# Altium footprint library B9_HashBoard.PcbLib: 47 footprints (part 3 of 3)
Each footprint in its own frame and in the unit in brackets; x right, y up, seen from the top. Pads: shape width x height; smd on the part's side, far side on the other; paste and mask are expansions set on the pad; w line width, h text height; cw(c..) or ccw(c..) is an arc to the next point about the centre after c.
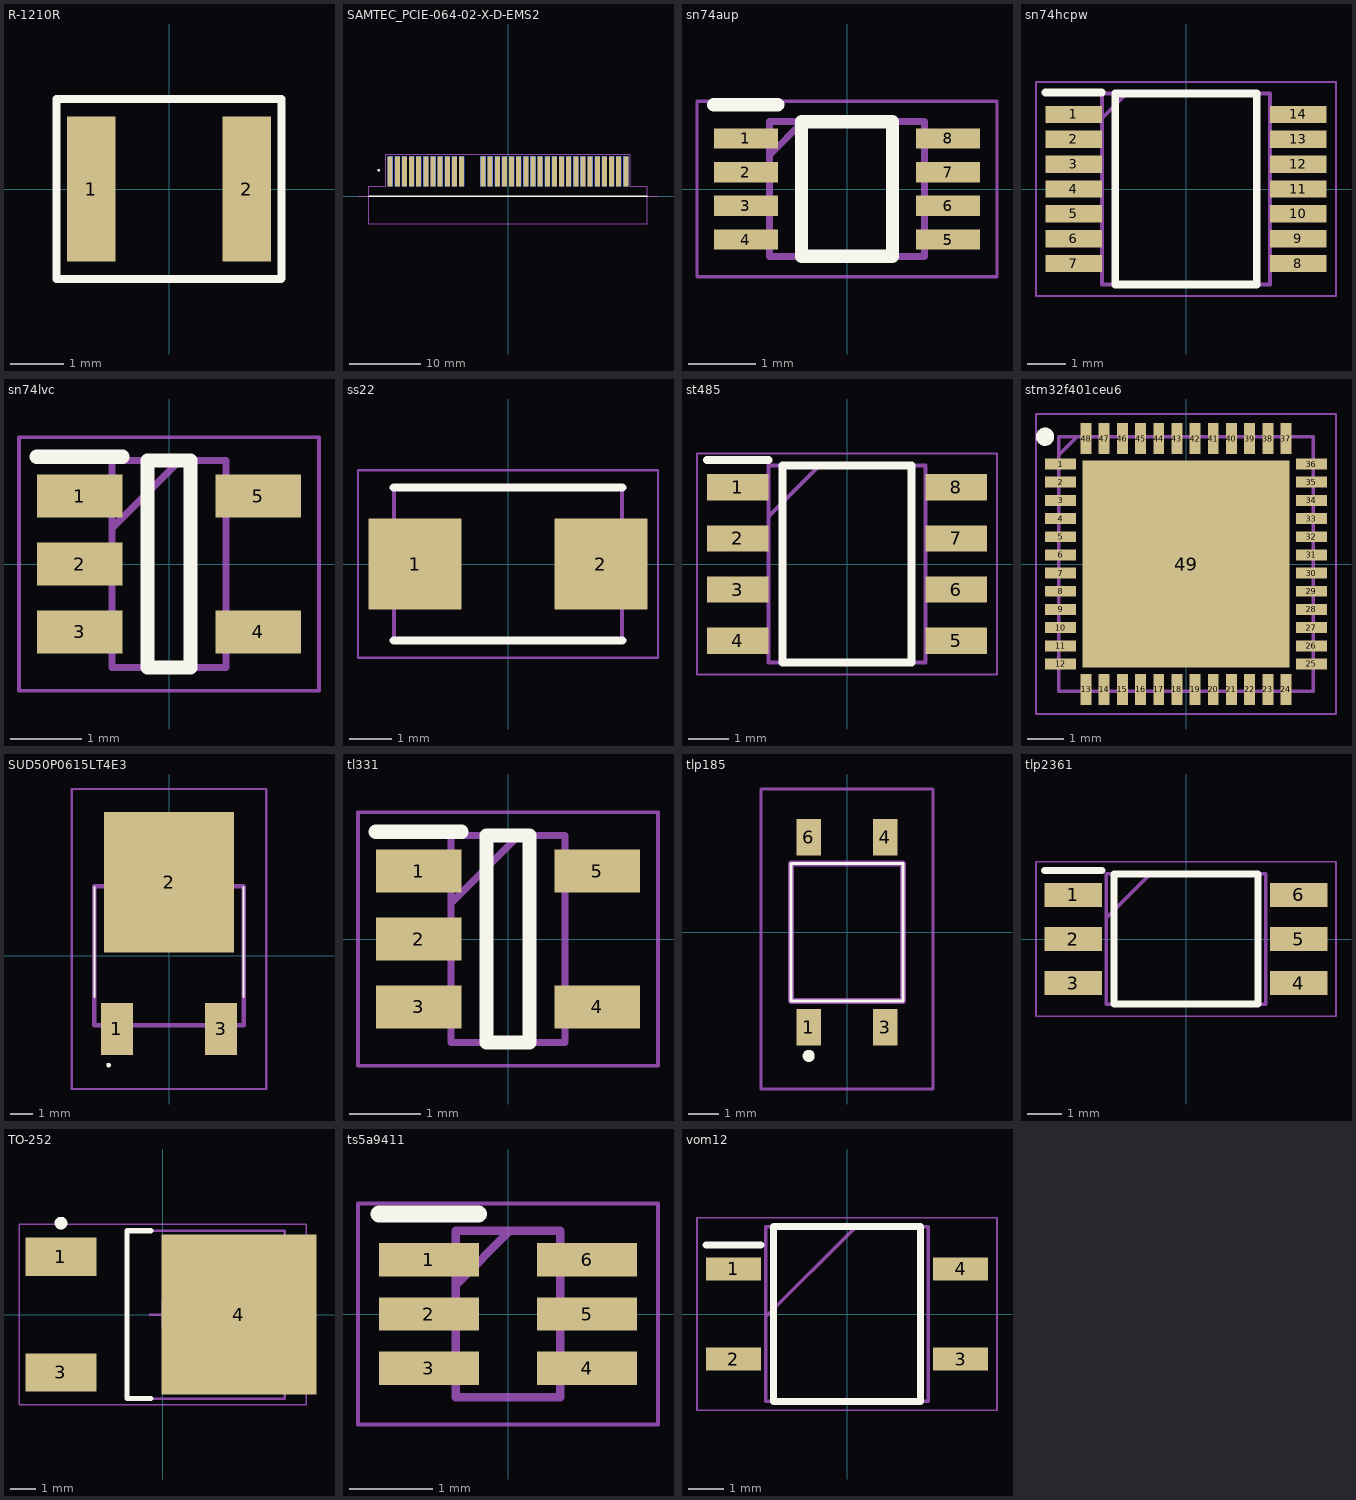
[diagram p2: the footprints below, top view; thin cyan lines are the x and y axes]

## R-1210R [mm] "resistor 1210 reflow soldering"
pads (2):
  rect 0.9x2.7 smd: 1(-1.45,0) 2(1.45,0)
Top Overlay:
  lines w0.152: 2.1,1.66 2.1,-1.67 2.09,-1.68 1.25,-1.68 -2.1,-1.68 -2.1,1.68 2.1,1.68

## SAMTEC_PCIE-064-02-X-D-EMS2 [mm]
pads (64):
  rect 0.7x4.2 smd: A1(-16.5,3.5) A2(-15.5,3.5) A3(-14.5,3.5) A4(-13.5,3.5) A5(-12.5,3.5) A6(-11.5,3.5) A7(-10.5,3.5) A8(-9.5,3.5) A9(-8.5,3.5) A10(-7.5,3.5) A11(-6.5,3.5) A12(-3.5,3.5) A13(-2.5,3.5) A14(-1.5,3.5) A15(-0.5,3.5) A16(0.5,3.5) A17(1.5,3.5) A18(2.5,3.5) A19(3.5,3.5) A20(4.5,3.5) A21(5.5,3.5) A22(6.5,3.5) A23(7.5,3.5) A24(8.5,3.5) A25(9.5,3.5) A26(10.5,3.5) A27(11.5,3.5) A28(12.5,3.5) A29(13.5,3.5) A30(14.5,3.5) A31(15.5,3.5) A32(16.5,3.5)
  rect 0.7x4.2 smd far side: B1(-16.5,3.5) B2(-15.5,3.5) B3(-14.5,3.5) B4(-13.5,3.5) B5(-12.5,3.5) B6(-11.5,3.5) B7(-10.5,3.5) B8(-9.5,3.5) B9(-8.5,3.5) B10(-7.5,3.5) B11(-6.5,3.5) B12(-3.5,3.5) B13(-2.5,3.5) B14(-1.5,3.5) B15(-0.5,3.5) B16(0.5,3.5) B17(1.5,3.5) B18(2.5,3.5) B19(3.5,3.5) B20(4.5,3.5) B21(5.5,3.5) B22(6.5,3.5) B23(7.5,3.5) B24(8.5,3.5) B25(9.5,3.5) B26(10.5,3.5) B27(11.5,3.5) B28(12.5,3.5) B29(13.5,3.5) B30(14.5,3.5) B31(15.5,3.5) B32(16.5,3.5)
Top Overlay:
  circle w0.2: c-18.1,3.65 r0.1
  lines w0.2: -19.5,0 19.5,0
Mechanical 13:
  circle w0.2: c-18.1,3.65 r0.1
  lines w0.1: -21,0 21,0 ; -19.5,-3.81 19.5,-3.81 19.5,0 -19.5,0 -19.5,-3.81
Mechanical 15:
  lines w0.05: -19.5,0 -19.5,1.4 -17.1,1.4 -17.1,5.85 17.1,5.85 17.1,1.4 19.5,1.4 19.5,0 -19.5,0

## sn74aup [mm]
pads (8):
  rect 0.95x0.3 smd: 1(-1.5,0.75) 2(-1.5,0.25) 3(-1.5,-0.25) 4(-1.5,-0.75) 5(1.5,-0.75) 6(1.5,-0.25) 7(1.5,0.25) 8(1.5,0.75)
Top Overlay:
  lines w0.2: -1.975,1.25 -1.025,1.25 ; -0.675,-1 -0.675,1 0.675,1 0.675,-1 -0.675,-1
Mechanical 13:
  lines w0.1: -1.15,0.5 -0.65,1 ; -1.15,-1 -1.15,1 1.15,1 1.15,-1 -1.15,-1
Mechanical 15:
  lines w0.05: -2.225,-1.3 -2.225,1.3 2.225,1.3 2.225,-1.3 -2.225,-1.3
3D body "SN74AUP1G74DCUR.stp": height 0.9, standoff 0, extent -1.55,-1 1.55,1

## sn74hcpw [mm]
pads (14):
  rect 1.475x0.45 smd: 1(-2.938,1.95) 2(-2.938,1.3) 3(-2.938,0.65) 4(-2.938,0) 5(-2.938,-0.65) 6(-2.938,-1.3) 7(-2.938,-1.95) 8(2.938,-1.95) 9(2.938,-1.3) 10(2.938,-0.65) 11(2.938,0) 12(2.938,0.65) 13(2.938,1.3) 14(2.938,1.95)
Top Overlay:
  lines w0.2: -3.675,2.525 -2.2,2.525 ; -1.85,-2.5 1.85,-2.5 1.85,2.5 -1.85,2.5 -1.85,-2.5
Mechanical 13:
  lines w0.1: -2.2,1.85 -1.55,2.5 ; -2.2,-2.5 2.2,-2.5 2.2,2.5 -2.2,2.5 -2.2,-2.5
Mechanical 15:
  lines w0.05: -3.925,-2.8 3.925,-2.8 3.925,2.8 -3.925,2.8 -3.925,-2.8
3D body "SN74HC14PW.stp": height 1.2, standoff 0, extent -3.2,-2.5 3.2,2.5

## sn74lvc [mm]
pads (5):
  rect 1.2x0.6 smd: 1(-1.25,0.95) 2(-1.25,0) 3(-1.25,-0.95) 4(1.25,-0.95) 5(1.25,0.95)
Top Overlay:
  lines w0.2: -1.85,1.5 -0.65,1.5 ; -0.3,-1.45 -0.3,1.45 0.3,1.45 0.3,-1.45 -0.3,-1.45
Mechanical 13:
  lines w0.1: -0.8,0.5 0.15,1.45 ; -0.8,-1.45 -0.8,1.45 0.8,1.45 0.8,-1.45 -0.8,-1.45
Mechanical 15:
  lines w0.05: -2.1,-1.775 -2.1,1.775 2.1,1.775 2.1,-1.775 -2.1,-1.775
3D body "TL331BIDBVR.stp": height 1.45, standoff 0, extent -1.4,-1.45 1.4,1.45

## ss22 [mm]
pads (2):
  rect 2.2x2.15 smd: 1(-2.2,0) 2(2.2,0)
Top Overlay:
  lines w0.2: -2.7,-1.81 2.7,-1.81 ; -2.7,1.81 2.7,1.81
Mechanical 13:
  lines w0.1: -2.7,-1.81 2.7,-1.81 2.7,1.81 -2.7,1.81 -2.7,-1.81
Mechanical 15:
  lines w0.05: -3.55,-2.22 3.55,-2.22 3.55,2.22 -3.55,2.22 -3.55,-2.22
3D body "SS22-E3_52T.stp": height 2.44, standoff 0, extent -2.7,-1.81 2.7,1.81

## st485 [mm]
pads (8):
  rect 1.525x0.65 smd: 1(-2.712,1.905) 2(-2.712,0.635) 3(-2.712,-0.635) 4(-2.712,-1.905) 5(2.712,-1.905) 6(2.712,-0.635) 7(2.712,0.635) 8(2.712,1.905)
Top Overlay:
  lines w0.2: -3.475,2.58 -1.95,2.58 ; -1.6,-2.45 1.6,-2.45 1.6,2.45 -1.6,2.45 -1.6,-2.45
Mechanical 13:
  lines w0.1: -1.95,1.18 -0.68,2.45 ; -1.95,-2.45 1.95,-2.45 1.95,2.45 -1.95,2.45 -1.95,-2.45
Mechanical 15:
  lines w0.05: -3.725,-2.75 3.725,-2.75 3.725,2.75 -3.725,2.75 -3.725,-2.75
3D body "NE555DR.stp": height 1.75, standoff 0, extent -3,-2.45 3,2.45

## stm32f401ceu6 [mm]
pads (49):
  rect 0.85x0.3 smd: 1(-3.45,2.75) 2(-3.45,2.25) 3(-3.45,1.75) 4(-3.45,1.25) 5(-3.45,0.75) 6(-3.45,0.25) 7(-3.45,-0.25) 8(-3.45,-0.75) 9(-3.45,-1.25) 10(-3.45,-1.75) 11(-3.45,-2.25) 12(-3.45,-2.75) 25(3.45,-2.75) 26(3.45,-2.25) 27(3.45,-1.75) 28(3.45,-1.25) 29(3.45,-0.75) 30(3.45,-0.25) 31(3.45,0.25) 32(3.45,0.75) 33(3.45,1.25) 34(3.45,1.75) 35(3.45,2.25) 36(3.45,2.75)
  rect 0.3x0.85 smd: 13(-2.75,-3.45) 14(-2.25,-3.45) 15(-1.75,-3.45) 16(-1.25,-3.45) 17(-0.75,-3.45) 18(-0.25,-3.45) 19(0.25,-3.45) 20(0.75,-3.45) 21(1.25,-3.45) 22(1.75,-3.45) 23(2.25,-3.45) 24(2.75,-3.45) 37(2.75,3.45) 38(2.25,3.45) 39(1.75,3.45) 40(1.25,3.45) 41(0.75,3.45) 42(0.25,3.45) 43(-0.25,3.45) 44(-0.75,3.45) 45(-1.25,3.45) 46(-1.75,3.45) 47(-2.25,3.45) 48(-2.75,3.45)
  rect 5.7x5.7 smd: 49(0,0)
Top Overlay:
  circle w0.25: c-3.875,3.5 r0.125
Mechanical 13:
  lines w0.1: -3.5,3 -3,3.5 ; -3.5,-3.5 3.5,-3.5 3.5,3.5 -3.5,3.5 -3.5,-3.5
Mechanical 15:
  lines w0.05: -4.125,-4.125 4.125,-4.125 4.125,4.125 -4.125,4.125 -4.125,-4.125
3D body "STM32F401CEU6.stp": height 0.65, standoff 0, extent -3.55,-3.55 3.55,3.55

## SUD50P0615LT4E3 [mil]
pads (3):
  rect 55x90 smd: 1(-90,-126.69) 3(90,-126.69)
  rect 224.02x243.31 smd: 2(0,126.65)
Top Overlay:
  lines w3.94: -128.74,-70.87 -128.74,118.11 ; 128.74,-70.87 128.74,118.11 ; -106.3,-188.98 cw(c-104.33,-188.98) -102.36,-188.98 cw(c-104.33,-188.98) -106.3,-188.98
Mechanical 13:
  lines w7.87: -128.74,-119.96 128.74,-119.96 128.74,119.96 -128.74,119.96 -128.74,-119.96
Mechanical 15:
  lines w3.94: -168.11,-230.31 168.11,-230.31 168.11,287.72 -168.11,287.72 -168.11,-230.31
3D body "SUD50P06-15L-T4-E3.stp": height 98.03, standoff 0, extent -128.74,-166.19 128.74,225.91

## tl331 [mm]
pads (5):
  rect 1.2x0.6 smd: 1(-1.25,0.95) 2(-1.25,0) 3(-1.25,-0.95) 4(1.25,-0.95) 5(1.25,0.95)
Top Overlay:
  lines w0.2: -1.85,1.5 -0.65,1.5 ; -0.3,-1.45 0.3,-1.45 0.3,1.45 -0.3,1.45 -0.3,-1.45
Mechanical 13:
  lines w0.1: -0.8,0.5 0.15,1.45 ; -0.8,-1.45 0.8,-1.45 0.8,1.45 -0.8,1.45 -0.8,-1.45
Mechanical 15:
  lines w0.05: -2.1,-1.775 2.1,-1.775 2.1,1.775 -2.1,1.775 -2.1,-1.775
3D body "TL331BIDBVR.stp": height 1.45, standoff 0, extent -1.4,-1.45 1.4,1.45

## tlp185 [mm]
pads (4):
  rect 0.8x1.2 smd: 1(-1.27,-3.15) 3(1.27,-3.15) 4(1.27,3.15) 6(-1.27,3.15)
Top Overlay:
  lines w0.1: -1.85,-2.275 -1.85,2.275 1.85,2.275 1.85,-2.275 -1.85,-2.275
  lines w0.2: -1.37,-4.1 ccw(c-1.27,-4.1) -1.17,-4.1 ccw(c-1.27,-4.1) -1.37,-4.1
Mechanical 13:
  lines w0.2: -1.85,-2.275 -1.85,2.275 1.85,2.275 1.85,-2.275 -1.85,-2.275
Mechanical 15:
  lines w0.1: -2.85,-5.2 -2.85,4.75 2.85,4.75 2.85,-5.2 -2.85,-5.2

## tlp2361 [mm]
pads (6):
  rect 1.65x0.7 smd: 1(-3.25,1.27) 2(-3.25,0) 3(-3.25,-1.27) 4(3.25,-1.27) 5(3.25,0) 6(3.25,1.27)
Top Overlay:
  lines w0.2: -4.075,1.97 -2.425,1.97 ; -2.075,-1.875 2.075,-1.875 2.075,1.875 -2.075,1.875 -2.075,-1.875
Mechanical 13:
  lines w0.1: -2.3,0.605 -1.03,1.875 ; -2.3,-1.875 2.3,-1.875 2.3,1.875 -2.3,1.875 -2.3,-1.875
Mechanical 15:
  lines w0.05: -4.325,-2.225 4.325,-2.225 4.325,2.225 -4.325,2.225 -4.325,-2.225
3D body "TLP2361_E.stp": height 2.3, standoff 0, extent -3.5,-1.875 3.5,1.875

## TO-252 [mm]
height 2.4
pads (3):
  rect 2.8x1.5 smd: 1(-4,2.275) 3(-4,-2.275)
  rect 6.1x6.3 smd: 4(3,0)
Top Overlay:
  circle w0.25: c-4,3.6 r0.125
  lines w0.2: -0.45,-3.3 -1.4,-3.3 -1.4,3.3 -0.45,3.3
Top Assembly:
  lines w0.1: -1.4,-3.3 4.8,-3.3 4.8,3.3 -1.4,3.3 -1.4,-3.3
Top Courtyard:
  lines w0.05: -5.65,-3.55 5.65,-3.55 5.65,3.55 -5.65,3.55 -5.65,-3.55
  lines w0.1: -0.5,0 0.5,0 ; 0,-0.5 0,0.5
3D body "User Library-DPAK_TO-252AA.step": height 2.41, standoff 0.01, extent -4.523,-3.367 5.577,3.367

## ts5a9411 [mm]
pads (6):
  rect 1.2x0.4 smd: 1(-0.95,0.65) 2(-0.95,0) 3(-0.95,-0.65) 4(0.95,-0.65) 5(0.95,0) 6(0.95,0.65)
Top Overlay:
  lines w0.2: -1.55,1.2 -0.35,1.2
Mechanical 13:
  lines w0.1: -0.625,0.35 0.025,1 ; -0.625,-1 -0.625,1 0.625,1 0.625,-1 -0.625,-1
Mechanical 15:
  lines w0.05: -1.8,-1.325 -1.8,1.325 1.8,1.325 1.8,-1.325 -1.8,-1.325
3D body "TS5A9411DCKR.stp": height 1.1, standoff 0, extent -1.05,-1 1.05,1

## vom12 [mm]
pads (4):
  rect 1.55x0.65 smd: 1(-3.2,1.27) 2(-3.2,-1.27) 3(3.2,-1.27) 4(3.2,1.27)
Top Overlay:
  lines w0.2: -3.975,1.945 -2.425,1.945 ; -2.075,-2.46 2.075,-2.46 2.075,2.46 -2.075,2.46 -2.075,-2.46
Mechanical 13:
  lines w0.1: -2.285,-0.08 0.255,2.46 ; -2.285,-2.46 2.285,-2.46 2.285,2.46 -2.285,2.46 -2.285,-2.46
Mechanical 15:
  lines w0.05: -4.225,-2.71 4.225,-2.71 4.225,2.71 -4.225,2.71 -4.225,-2.71
3D body "VOM1271T.stp": height 2.32, standoff 0, extent -3.475,-2.46 3.475,2.46